# Altium footprint library Port-3wire.PcbLib: 1 footprints
Each footprint in its own frame and in the unit in brackets; x right, y up, seen from the top. Pads: shape width x height; smd on the part's side, far side on the other; paste and mask are expansions set on the pad; w line width, h text height; cw(c..) or ccw(c..) is an arc to the next point about the centre after c.
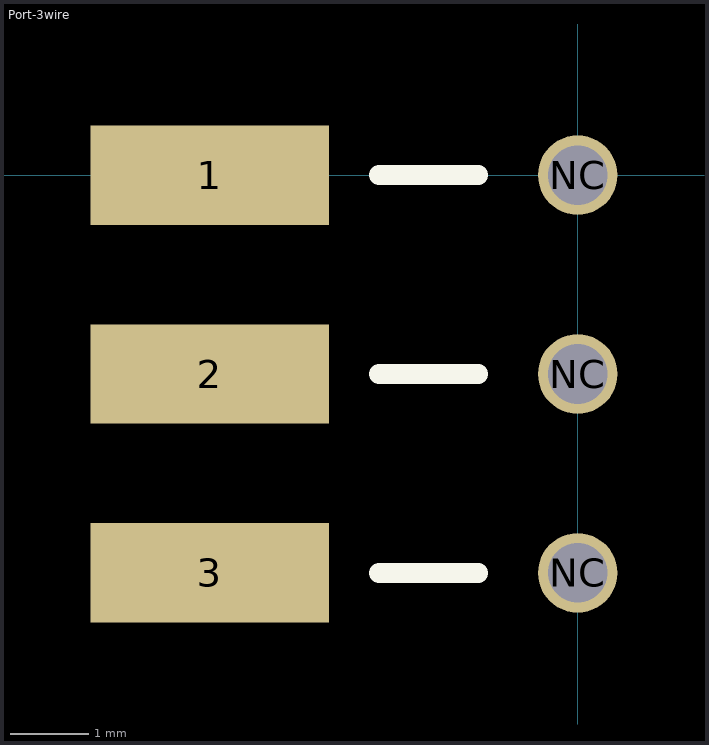
[diagram p0: the footprint, top view; thin cyan lines are the x and y axes]

## Port-3wire [mil]
pads (6):
  rect 120x50 smd: 1(-185,0) 2(-185,-100) 3(-185,-200)
  round 40 hole 30 unplated: NC(0,-200) NC(0,-100) NC(0,0)
Top Overlay:
  lines w10: -100,-200 -50,-200 ; -100,-100 -50,-100 ; -100,0 -50,0